# EAGLE library part AOZ1280 (library everykey)
AO EZBuck buck switching regulator, I=1.2A, Vinmax = 26V, SOT23-6 package
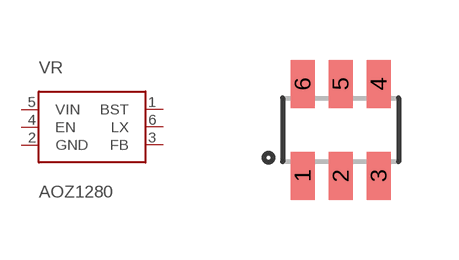
[diagram p64: symbol with the pads of SOT-23-6; footprint SOT-23-6]

Designator prefix VR

## AOZ1280SOT23-6  [SOT-23-6]
1  BST  in
2  GND  pwr
3  FB  in
4  EN  in
5  VIN  pwr
6  LX  out

## Footprint SOT-23-6 (pad centres in mm)
SOT23-6 package, 0.95mm pitch. Also works for SuperSOT 6.
smd 0.6 x 1.2: 1 -0.95,-1.15; 2 0,-1.15; 3 0.95,-1.15; 4 0.95,1.15; 5 0,1.15; 6 -0.95,1.15